# Altium footprint library FFC2B27-30-G.PcbLib: 1 footprints
Each footprint in its own frame and in the unit in brackets; x right, y up, seen from the top. Pads: shape width x height; smd on the part's side, far side on the other; paste and mask are expansions set on the pad; w line width, h text height; cw(c..) or ccw(c..) is an arc to the next point about the centre after c.
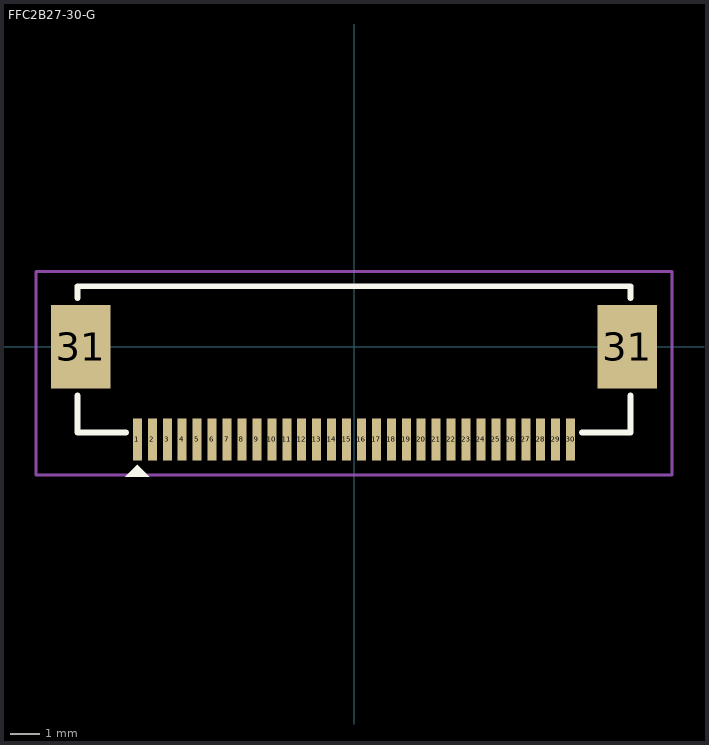
[diagram p0: the footprint, top view; thin cyan lines are the x and y axes]

## FFC2B27-30-G [mm]
pads (32):
  rect 0.3x1.4 smd: 1(-7.25,-3.1) 2(-6.75,-3.1) 3(-6.25,-3.1) 4(-5.75,-3.1) 5(-5.25,-3.1) 6(-4.75,-3.1) 7(-4.25,-3.1) 8(-3.75,-3.1) 9(-3.25,-3.1) 10(-2.75,-3.1) 11(-2.25,-3.1) 12(-1.75,-3.1) 13(-1.25,-3.1) 14(-0.75,-3.1) 15(-0.25,-3.1) 16(0.25,-3.1) 17(0.75,-3.1) 18(1.25,-3.1) 19(1.75,-3.1) 20(2.25,-3.1) 21(2.75,-3.1) 22(3.25,-3.1) 23(3.75,-3.1) 24(4.25,-3.1) 25(4.75,-3.1) 26(5.25,-3.1) 27(5.75,-3.1) 28(6.25,-3.1) 29(6.75,-3.1) 30(7.25,-3.1)
  rect 2x2.8 smd: 31(-9.15,0) 31(9.15,0)
Top Overlay:
  region: -6.85,-4.35 -7.65,-4.35 -7.25,-3.95
  lines w0.2: -9.25,-1.625 -9.25,-2.875 -7.625,-2.875 ; -9.25,1.625 -9.25,2.025 9.25,2.025 9.25,1.625 ; 7.625,-2.875 9.25,-2.875 9.25,-1.625
Top Courtyard:
  lines w0.1: -10.65,-4.3 -6.25,-4.3 10.65,-4.3 10.65,2.525 -10.65,2.525 -10.65,-4.3
3D body "FFC2B27-30-G.stp": height 2.77, standoff -0.15, extent -9.25,-3.25 9.25,2.02